# Altium schematic symbol library sm_transistor.SchLib: 5 symbols
Pins are listed as number, name and electrical type; pins without a type are passive.

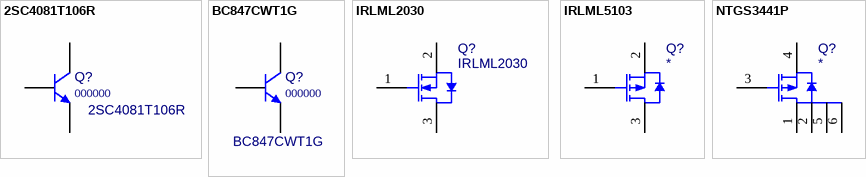
[diagram p0: symbols 2SC4081T106R to NTGS3441P]

## 2SC4081T106R
designator Q?, comment 000000  value 2SC4081T106R
NPN General-purpose Transistor; PN: 000000; Package: SOT-323; ExtraInfo: *
footprint SOT-323 (SC-70/SOT323)
pins: 1 B, 2 E, 3 C

## BC847CWT1G
designator Q?, comment 000000  value BC847CWT1G
NPN General-purpose Transistor; PN: 000000; Package: SOT-323; ExtraInfo: *
signal-integrity model BC847CW
footprint SOT-323 (SC-70/SOT323)
pins: 1 B, 2 E, 3 C

## IRLML2030
designator Q?
N-Channel MOSFET; Value: *; PN: IRLML2030; Package: *; ExtraInfo: *
footprint SOT-23 (SOT23, 3-Leads, Body 3.0x2.8mm (max), Pitch 0.95mm, IPC High Density)
pins: 1 G, 2 S, 3 D

## IRLML5103
designator Q?
P-Channel MOSFET; Value: IRLML5103; PN: *; Package: *; ExtraInfo: *
footprint SOT-23 (SOT23, 3-Leads, Body 3.0x2.8mm (max), Pitch 0.95mm, IPC High Density)
pins: 1 G, 2 S, 3 D

## NTGS3441P
designator Q?
P-Channel MOSFET; Value: NTGS3441P; PN: *; Package: *; ExtraInfo: *
footprint SOT-23-6
pins: 1 D, 2 D, 3 G, 4 S, 5 D, 6 D